# Altium footprint library HVMDIP-4.PcbLib: 1 footprints
Each footprint in its own frame and in the unit in brackets; x right, y up, seen from the top. Pads: shape width x height; smd on the part's side, far side on the other; paste and mask are expansions set on the pad; w line width, h text height; cw(c..) or ccw(c..) is an arc to the next point about the centre after c.
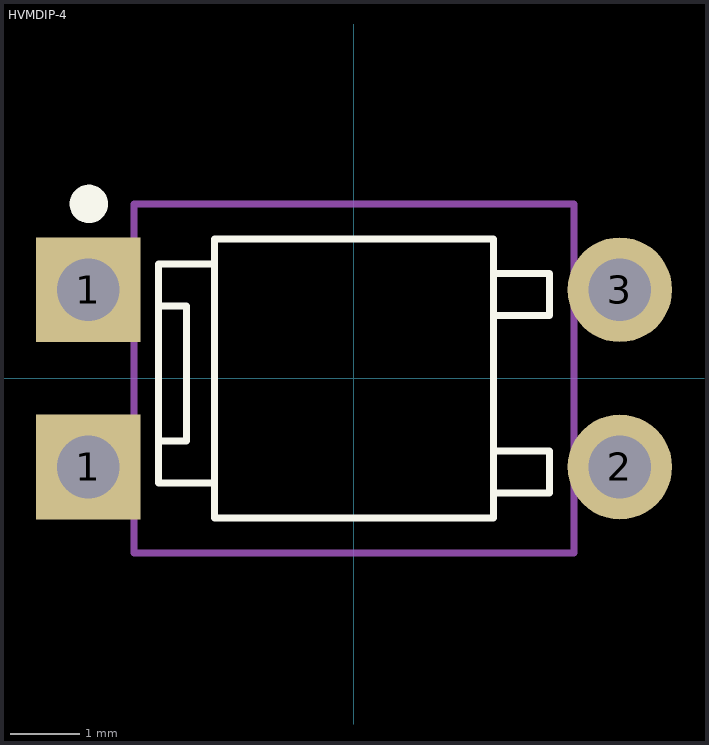
[diagram p0: the footprint, top view; thin cyan lines are the x and y axes]

## HVMDIP-4 [mm]
pads (4):
  rect 1.5x1.5 hole 0.9: 1(-3.81,-1.27) 1(-3.81,1.27)
  round 1.5 hole 0.9: 2(3.81,-1.27) 3(3.81,1.27)
Top Overlay:
  circle w0.3: c-3.8,2.5 r0.125
  lines w0.1: -2,-1.5 -2.8,-1.5 -2.8,-0.9 ; -2,1.64 -2.8,1.64 -2.8,1.04 ; 2,-1.64 2.8,-1.64 2.8,-1.04 2,-1.04 ; 2,0.9 2.8,0.9 2.8,1.5 2,1.5 ; -2.8,-0.9 -2.8,1.04 ; -2.8,-0.9 -2.4,-0.9 -2.4,1.04 -2.8,1.04 ; -2,-2 2,-2 2,2 -2,2 -2,-2
Mechanical 13:
  lines w0.1: -3.15,-2.5 -3.15,2.5 3.15,2.5 3.15,-2.5 -3.15,-2.5